# Altium footprint library QD.PcbLib: 1 footprints
Each footprint in its own frame and in the unit in brackets; x right, y up, seen from the top. Pads: shape width x height; smd on the part's side, far side on the other; paste and mask are expansions set on the pad; w line width, h text height; cw(c..) or ccw(c..) is an arc to the next point about the centre after c.
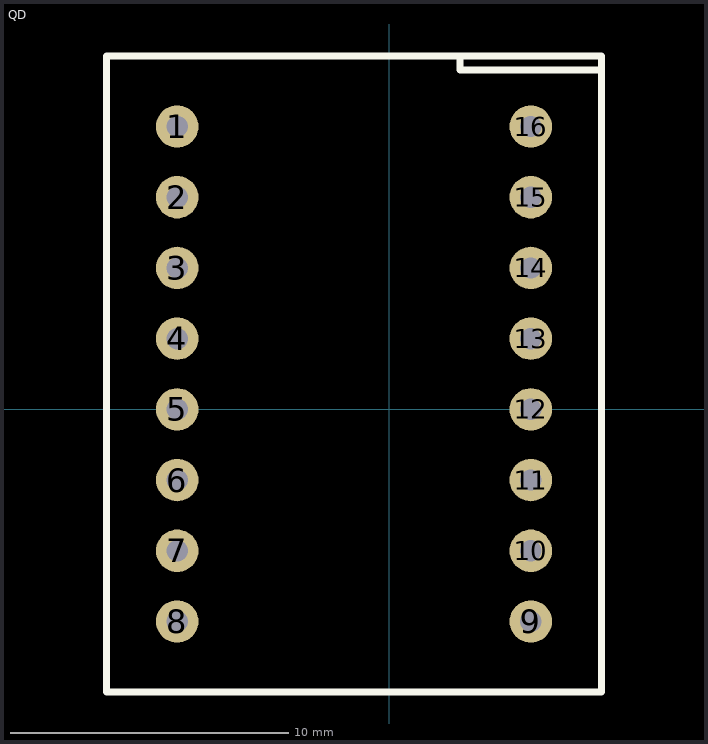
[diagram p0: the footprint, top view; thin cyan lines are the x and y axes]

## QD [mil]
pads (16):
  round 60 hole 30: 1(-300,400) 2(-300,300) 3(-300,200) 4(-300,100) 5(-300,0) 6(-300,-100) 7(-300,-200) 8(-300,-300) 9(200,-300) 10(200,-200) 11(200,-100) 12(200,0) 13(200,100) 14(200,200) 15(200,300) 16(200,400)
Top Overlay:
  lines w10: 0,500 100,500 100,480 300,480 ; -400,-400 -400,500 300,500 300,-400 -400,-400